# EAGLE library part 233-524 (library con-wago_233)
Serie 233, orange / Series 233, PCB terminal strip; 2 solder pins/pole; 24-pole; Pin spacing 2.54 mm / 0.1 in; with push-button Polzahl / Pole No.: 24 Rastermaß / Pitch: 2.54 - 2.54 mm Bemessungsspannung / Rated Voltage: 160 V Nennstrom / Nominal Current: 6 A Leiterquerschnitt / Conductor Size: 0.08 - 0.5 mm2 Anschlusstechnik / Connection Technology: CAGE CLAMP® Lötstiftlänge: / Solder Pin Length: 4 mm Leitereinführung (zur Platine) / Conductor entry angle (to PCB): 30 ° Farbe / Color: Klemmenleiste für Leiterplatten; 2 Lötstifte/Pol; 24-polig; Rastermaß 2,54 mm / 0.1 in; mit Betätigungsdrücker / orange Stand: 01.01.2015. Die jeweils aktuellen Daten zu diesem Artikel finden Sie in unserem Produktkatalog, den Sie unter www.wago.com einsehen können. As of: 01/01/2015. Please find the newest data for this article in our product catalogue, which can be viewed under www.wago.com.
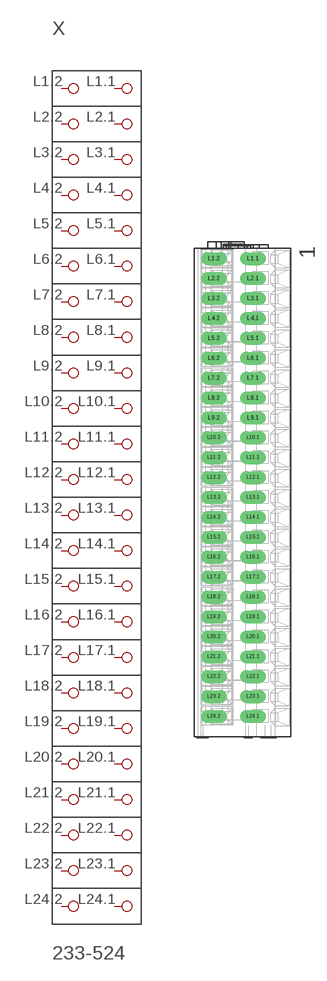
[diagram p43: symbol with the pads of P-233-524; footprint P-233-524]

Designator prefix X

## 233-524  [P-233-524]
L1.1  P1.1
L1.2  P1.2
L2.1  P2.1
L2.2  P2.2
L3.1  P3.1
L3.2  P3.2
L4.1  P4.1
L4.2  P4.2
L5.1  P5.1
L5.2  P5.2
L6.1  P6.1
L6.2  P6.2
L7.1  P7.1
L7.2  P7.2
L8.1  P8.1
L8.2  P8.2
L9.1  P9.1
L9.2  P9.2
L10.1  P10.1
L10.2  P10.2
L11.1  P11.1
L11.2  P11.2
L12.1  P12.1
L12.2  P12.2
L13.1  P13.1
L13.2  P13.2
L14.1  P14.1
L14.2  P14.2
L15.1  P15.1
L15.2  P15.2
L16.1  P16.1
L16.2  P16.2
L17.1  P17.1
L17.2  P17.2
L18.1  P18.1
L18.2  P18.2
L19.1  P19.1
L19.2  P19.2
L20.1  P20.1
L20.2  P20.2
L21.1  P21.1
L21.2  P21.2
L22.1  P22.1
L22.2  P22.2
L23.1  P23.1
L23.2  P23.2
L24.1  P24.1
L24.2  P24.2

## Footprint P-233-524 (pad centres in mm)
drill 1.1 long: L1.1 0,-1.34; L1.2 -5,-1.34; L2.1 0,-3.88; L2.2 -5,-3.88; L3.1 0,-6.42; L3.2 -5,-6.42; L4.1 0,-8.96; L4.2 -5,-8.96; L5.1 0,-11.5; L5.2 -5,-11.5; L6.1 0,-14.04; L6.2 -5,-14.04; L7.1 0,-16.58; L7.2 -5,-16.58; L8.1 0,-19.12; L8.2 -5,-19.12; L9.1 0,-21.66; L9.2 -5,-21.66; L10.1 0,-24.2; L10.2 -5,-24.2; L11.1 0,-26.74; L11.2 -5,-26.74; L12.1 0,-29.28; L12.2 -5,-29.28; L13.1 0,-31.82; L13.2 -5,-31.82; L14.1 0,-34.36; L14.2 -5,-34.36; L15.1 0,-36.9; L15.2 -5,-36.9; L16.1 0,-39.44; L16.2 -5,-39.44; L17.1 0,-41.98; L17.2 -5,-41.98; L18.1 0,-44.52; L18.2 -5,-44.52; L19.1 0,-47.06; L19.2 -5,-47.06; L20.1 0,-49.6; L20.2 -5,-49.6; L21.1 0,-52.14; L21.2 -5,-52.14; L22.1 0,-54.68; L22.2 -5,-54.68; L23.1 0,-57.22; L23.2 -5,-57.22; L24.1 0,-59.76; L24.2 -5,-59.76